# EAGLE library part STM8L152C6 (library st-microelectronics)
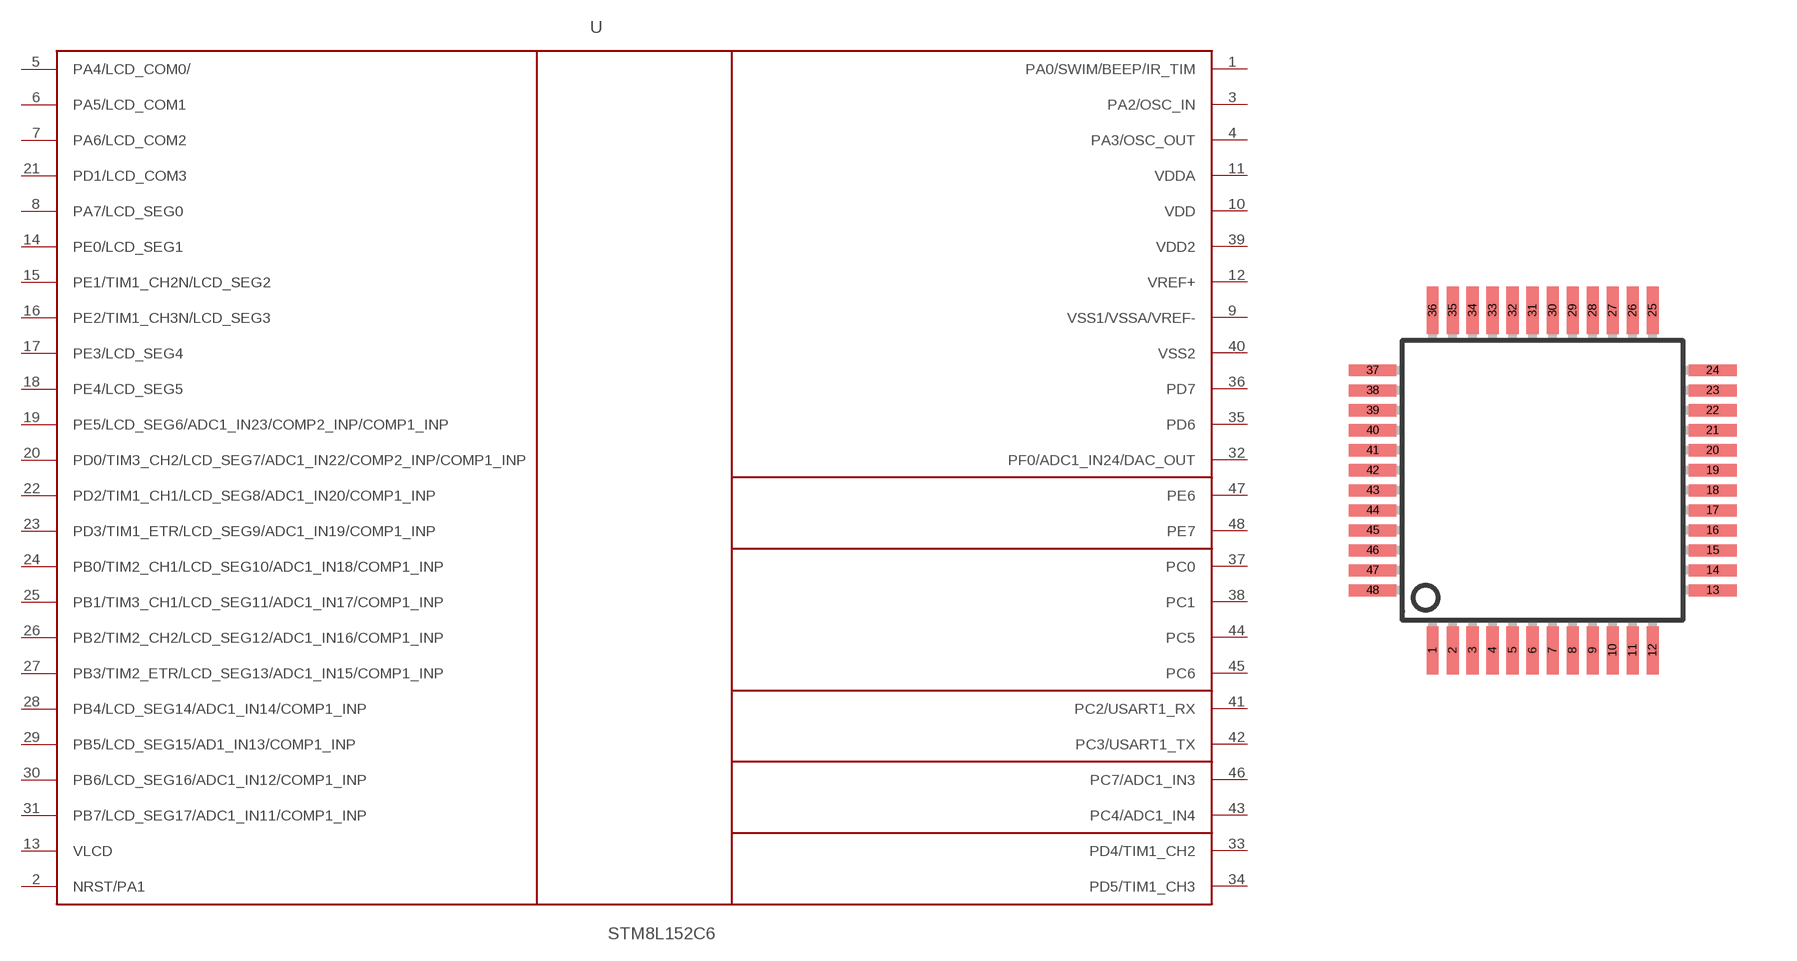
[diagram p43: symbol with the pads of LQFP48; footprint LQFP48]

Designator prefix U

## STM8L152C6  [LQFP48]
1  PA0/SWIM/BEEP/IR_TIM
2  NRST/PA1
3  PA2/OSC_IN
4  PA3/OSC_OUT
5  PA4/LCD_COM0/
6  PA5/LCD_COM1
7  PA6/LCD_COM2
8  PA7/LCD_SEG0
9  VSS1/VSSA/VREF-
10  VDD
11  VDDA
12  VREF+
13  VLCD
14  PE0/LCD_SEG1
15  PE1/TIM1_CH2N/LCD_SEG2
16  PE2/TIM1_CH3N/LCD_SEG3
17  PE3/LCD_SEG4
18  PE4/LCD_SEG5
19  PE5/LCD_SEG6/ADC1_IN23/COMP2_INP/COMP1_INP
20  PD0/TIM3_CH2/LCD_SEG7/ADC1_IN22/COMP2_INP/COMP1_INP
21  PD1/LCD_COM3
22  PD2/TIM1_CH1/LCD_SEG8/ADC1_IN20/COMP1_INP
23  PD3/TIM1_ETR/LCD_SEG9/ADC1_IN19/COMP1_INP
24  PB0/TIM2_CH1/LCD_SEG10/ADC1_IN18/COMP1_INP
25  PB1/TIM3_CH1/LCD_SEG11/ADC1_IN17/COMP1_INP
26  PB2/TIM2_CH2/LCD_SEG12/ADC1_IN16/COMP1_INP
27  PB3/TIM2_ETR/LCD_SEG13/ADC1_IN15/COMP1_INP
28  PB4/LCD_SEG14/ADC1_IN14/COMP1_INP
29  PB5/LCD_SEG15/AD1_IN13/COMP1_INP
30  PB6/LCD_SEG16/ADC1_IN12/COMP1_INP
31  PB7/LCD_SEG17/ADC1_IN11/COMP1_INP
32  PF0/ADC1_IN24/DAC_OUT
33  PD4/TIM1_CH2
34  PD5/TIM1_CH3
35  PD6
36  PD7
37  PC0
38  PC1
39  VDD2
40  VSS2
41  PC2/USART1_RX
42  PC3/USART1_TX
43  PC4/ADC1_IN4
44  PC5
45  PC6
46  PC7/ADC1_IN3
47  PE6
48  PE7

## Footprint LQFP48 (pad centres in mm)
LQFP48 7 x 7 mm, 48-pin low-profile quad flat package
smd 0.3 x 1.2: 1 -2.75,-4.25; 2 -2.25,-4.25; 3 -1.75,-4.25; 4 -1.25,-4.25; 5 -0.75,-4.25; 6 -0.25,-4.25; 7 0.25,-4.25; 8 0.75,-4.25; 9 1.25,-4.25; 10 1.75,-4.25; 11 2.25,-4.25; 12 2.75,-4.25; 25 2.75,4.25; 26 2.25,4.25; 27 1.75,4.25; 28 1.25,4.25; 29 0.75,4.25; 30 0.25,4.25; 31 -0.25,4.25; 32 -0.75,4.25; 33 -1.25,4.25; 34 -1.75,4.25; 35 -2.25,4.25; 36 -2.75,4.25
smd 1.2 x 0.3: 13 4.25,-2.75; 14 4.25,-2.25; 15 4.25,-1.75; 16 4.25,-1.25; 17 4.25,-0.75; 18 4.25,-0.25; 19 4.25,0.25; 20 4.25,0.75; 21 4.25,1.25; 22 4.25,1.75; 23 4.25,2.25; 24 4.25,2.75; 37 -4.25,2.75; 38 -4.25,2.25; 39 -4.25,1.75; 40 -4.25,1.25; 41 -4.25,0.75; 42 -4.25,0.25; 43 -4.25,-0.25; 44 -4.25,-0.75; 45 -4.25,-1.25; 46 -4.25,-1.75; 47 -4.25,-2.25; 48 -4.25,-2.75